# EAGLE library part DA9121 (library DA912x)
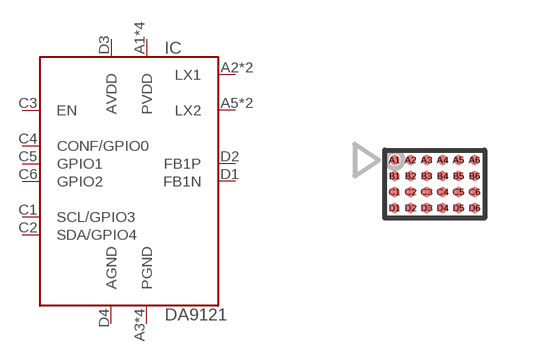
[diagram p0: symbol with the pads of WLCSP-6X4-0.4; footprint WLCSP-6X4-0.4]

Designator prefix IC

## DA9121-A2OZ2 (MF: Dialog Semiconductor; MPN: DA9121-A2OZ2), DA9121-A2OZ6 (MF: Dialog Semiconductor; MPN: DA9121-A2OZ6), DA9121-A2V72 (MF: Dialog Semiconductor; MPN: DA9121-A2V72), DA9121-A2V76 (MF: Dialog Semiconductor; MPN: DA9121-A2V76), DA9121-B0OZ2 (MF: Dialog Semiconductor; MPN: DA9121-B0OZ2), DA9121-B0V72 (MF: Dialog Semiconductor; MPN: DA9121-B0V72), DA9121-B0V76 (MF: Dialog Semiconductor; MPN: DA9121-B0V76)  [WLCSP-6X4-0.4]
A1  PVDD  pwr
A2  LX1  out
A3  PGND  pwr
A4  PGND  pwr
A5  LX2  out
A6  PVDD  pwr
B1  PVDD  pwr
B2  LX1  out
B3  PGND  pwr
B4  PGND  pwr
B5  LX2  out
B6  PVDD  pwr
C1  SCL/GPIO3  oc
C2  SDA/GPIO4  oc
C3  EN  in
C4  CONF/GPIO0
C5  GPIO1
C6  GPIO2
D1  FB1N  in
D2  FB1P  in
D3  AVDD  pwr
D4  AGND  pwr

## Footprint WLCSP-6X4-0.4 (pad centres in mm)
smd 0.25 x 0.25: A1 -1,0.6; A2 -0.6,0.6; A3 -0.2,0.6; A4 0.2,0.6; A5 0.6,0.6; A6 1,0.6; B1 -1,0.2; B2 -0.6,0.2; B3 -0.2,0.2; B4 0.2,0.2; B5 0.6,0.2; B6 1,0.2; C1 -1,-0.2; C2 -0.6,-0.2; C3 -0.2,-0.2; C4 0.2,-0.2; C5 0.6,-0.2; C6 1,-0.2; D1 -1,-0.6; D2 -0.6,-0.6; D3 -0.2,-0.6; D4 0.2,-0.6; D5 0.6,-0.6; D6 1,-0.6